# EAGLE library part TPS2513ADBVR (library ruark2)
USB Dedicated Charging Port (DCP), Power Switch PMIC SOT-23-6
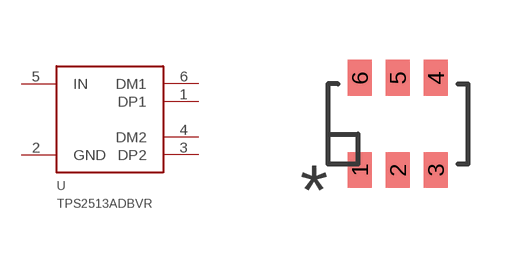
[diagram p150: symbol with the pads of SOT23-6; footprint SOT23-6]

Designator prefix U

## TPS2513ADBVR  [SOT23-6]
1  DP1
2  GND
3  DP2
4  DM2
5  IN
6  DM1

## Footprint SOT23-6 (pad centres in mm)
smd 0.6 x 0.9: 1 -0.95,-1.15; 2 0,-1.15; 3 0.95,-1.15; 4 0.95,1.15; 5 0,1.15; 6 -0.95,1.15